# EAGLE library part ED555/11 (library con-ost)
HEADER
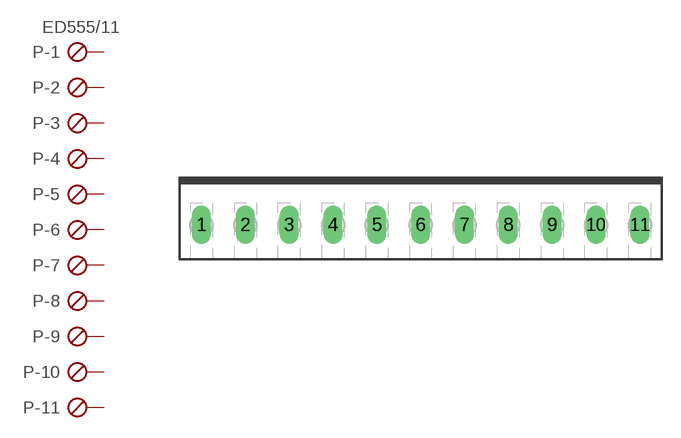
[diagram p23: symbol with the pads of ED555/11; footprint ED555/11]

Designator prefix P; gates -1=KLV-1 -2=KL-1 -3=KL-1 -4=KL-1 -5=KL-1 -6=KL-1 -7=KL-1 -8=KL-1 -9=KL-1 -10=KL-1 -11=KL-1

## ED555/11  [ED555/11]
1  -1:P  pas
2  -2:P  pas
3  -3:P  pas
4  -4:P  pas
5  -5:P  pas
6  -6:P  pas
7  -7:P  pas
8  -8:P  pas
9  -9:P  pas
10  -10:P  pas
11  -11:P  pas

## Footprint ED555/11 (pad centres in mm)
SCREW TERMINAL 3.5mm
drill 1.016 long: 1 -17.5,0; 2 -14,0; 3 -10.5,0; 4 -7,0; 5 -3.5,0; 6 0,0; 7 3.5,0; 8 7,0; 9 10.5,0; 10 14,0; 11 17.5,0